# Altium footprint library RectangularConnectors.PcbLib: 154 footprints (part 9 of 10)
Each footprint in its own frame and in the unit in brackets; x right, y up, seen from the top. Pads: shape width x height; smd on the part's side, far side on the other; paste and mask are expansions set on the pad; w line width, h text height; cw(c..) or ccw(c..) is an arc to the next point about the centre after c.
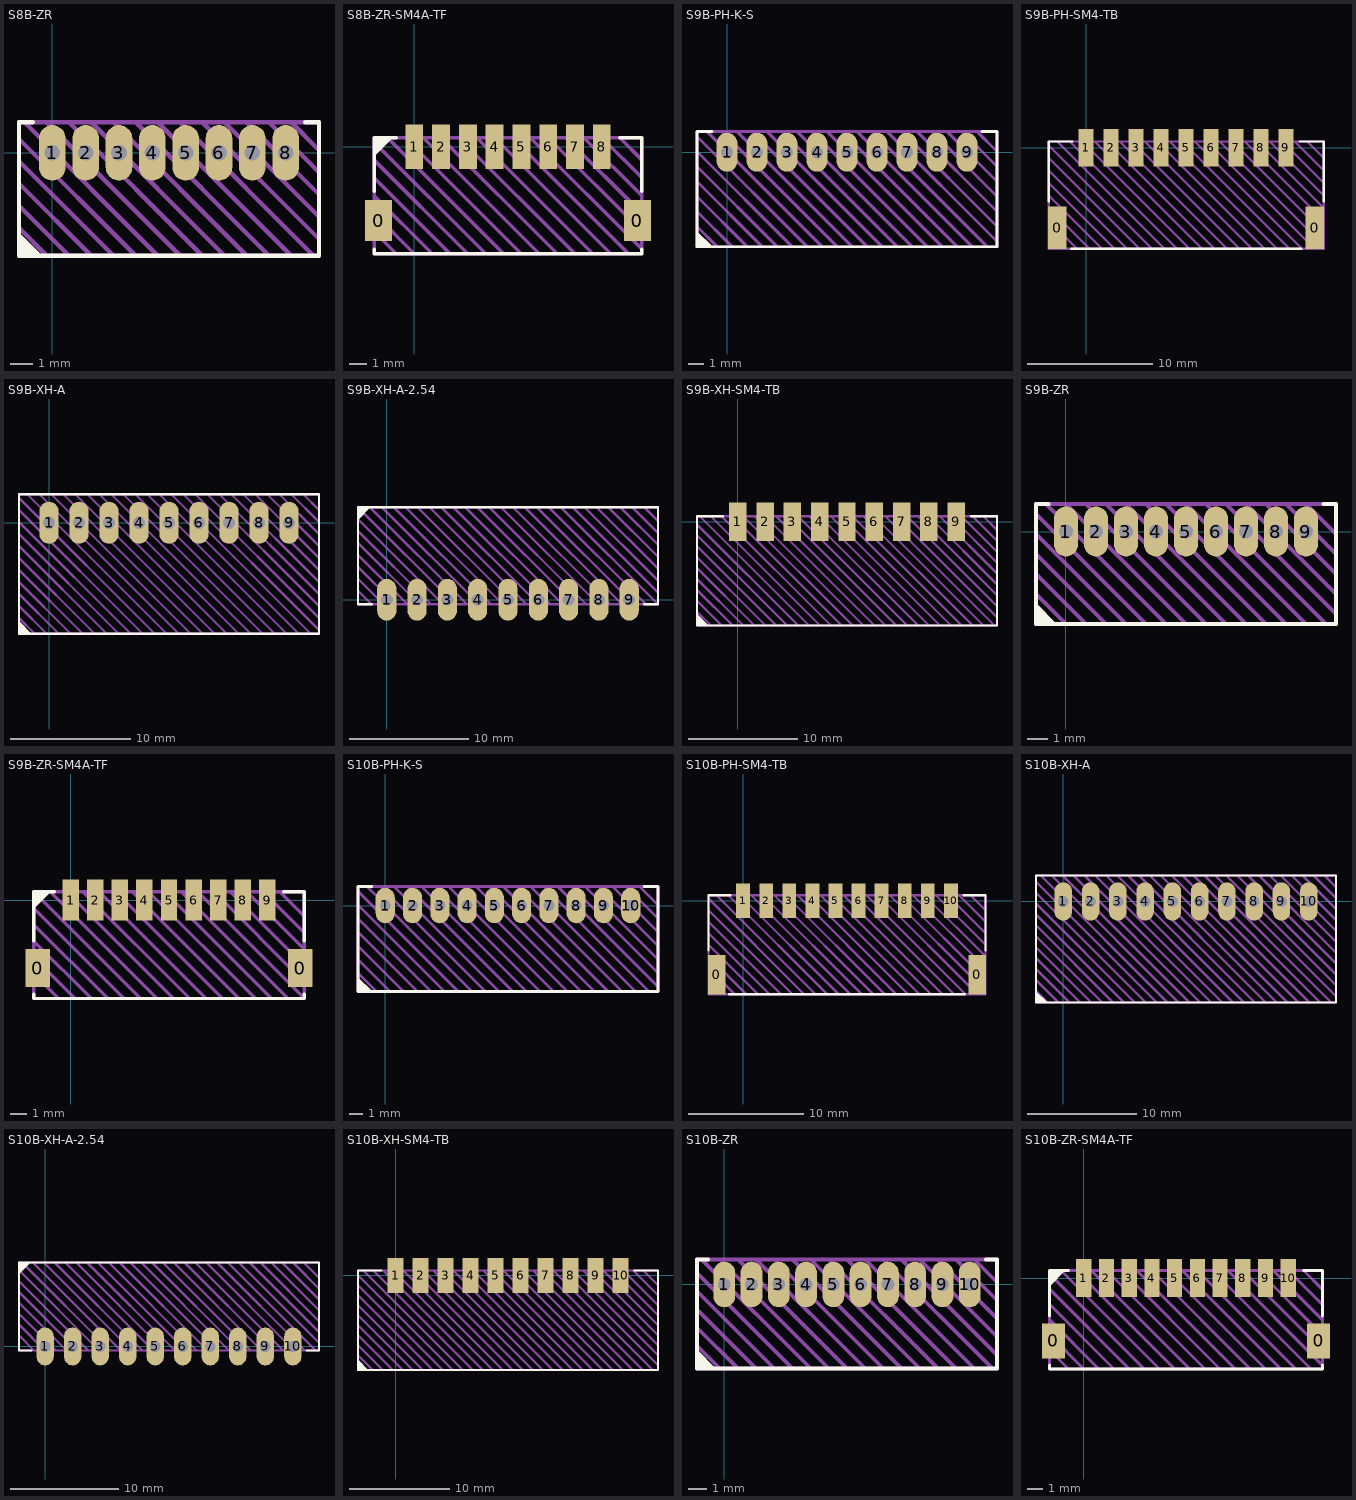
[diagram p8: the footprints below, top view; thin cyan lines are the x and y axes]

## S8B-ZR [mm] "ZH1.5 PTH Right Angle"
pads (8):
  oval 1.2x2.5 hole 0.7: 1(0,0) 2(1.5,0) 3(3,0) 4(4.5,0) 5(6,0) 6(7.5,0) 7(9,0) 8(10.5,0)
Top Overlay:
  region: -0.46,-4.625 -1.5,-3.585 -1.5,-4.625
  lines w0.2: -0.875,1.375 -1.5,1.375 -1.5,-4.625 12,-4.625 12,1.375 11.375,1.375
Top Draw:
  lines w0.2: -1.5,-3.375 -0.25,-4.625 ; -1.5,-2.375 0.75,-4.625 ; -1.5,-1.375 1.75,-4.625 ; -1.5,-0.375 2.75,-4.625 ; -1.5,0.625 3.75,-4.625 ; -1.25,1.375 4.75,-4.625 ; -0.25,1.375 5.75,-4.625 ; 0.75,1.375 6.75,-4.625 ; 1.75,1.375 7.75,-4.625 ; 2.75,1.375 8.75,-4.625 ; 3.75,1.375 9.75,-4.625 ; 4.75,1.375 10.75,-4.625 ; 5.75,1.375 11.75,-4.625 ; 6.75,1.375 12,-3.875 ; 7.75,1.375 12,-2.875 ; 8.75,1.375 12,-1.875 ; 9.75,1.375 12,-0.875 ; 10.75,1.375 12,0.125 ; -1.5,-4.625 12,-4.625 12,1.375 -1.5,1.375 -1.5,-4.625
Top Info:
  text "'.Comment'" at 2.064,-5.812 h0.75
3D body "S8B-ZR.step": height 3.72, standoff -2.68, extent -1.5,-4.6 12,1.4

## S8B-ZR-SM4A-TF [mm] "ZH1.5 SMT Right Angle"
pads (10):
  rect 1.5x2.3 smd: 0(-2,-4.15) 0(12.5,-4.15)
  rect 1x2.5 smd: 1(0,0) 2(1.5,0) 3(3,0) 4(4.5,0) 5(6,0) 6(7.5,0) 7(9,0) 8(10.5,0)
Top Overlay:
  region: -1.21,0.5 -2.25,-0.54 -2.25,0.5
  lines w0.2: -2.25,-5.75 -2.25,-6 12.75,-6 12.75,-5.75 ; -2.25,-2.5 -2.25,0.5 -1,0.5 ; 11.5,0.5 12.75,0.5 12.75,-2.5
Top Draw:
  lines w0.2: -2.25,-4.75 -1,-6 ; -2.25,-3.75 0,-6 ; -2.25,-2.75 1,-6 ; -2.25,-1.75 2,-6 ; -2.25,-0.75 3,-6 ; -2.25,0.25 4,-6 ; -1.5,0.5 5,-6 ; -0.5,0.5 6,-6 ; 0.5,0.5 7,-6 ; 1.5,0.5 8,-6 ; 2.5,0.5 9,-6 ; 3.5,0.5 10,-6 ; 4.5,0.5 11,-6 ; 5.5,0.5 12,-6 ; 6.5,0.5 12.75,-5.75 ; 7.5,0.5 12.75,-4.75 ; 8.5,0.5 12.75,-3.75 ; 9.5,0.5 12.75,-2.75 ; 10.5,0.5 12.75,-1.75 ; 11.5,0.5 12.75,-0.75 ; -2.25,-6 -2.25,0.5 12.75,0.5 12.75,-6 -2.25,-6
Top Info:
  text "'.Comment'" at 2.064,-7.187 h0.75
3D body "S8B-ZR-SM4A-TF.step": height 3.72, standoff 0.02, extent -2.25,-6 12.75,0.5

## S9B-PH-K-S [mm] "PH2.0 PTH Right Angle"
pads (9):
  oval 1.4x2.6 hole 0.8: 1(0,0) 2(2,0) 3(4,0) 4(6,0) 5(8,0) 6(10,0) 7(12,0) 8(14,0) 9(16,0)
Top Overlay:
  region: -0.96,-6.3 -2,-5.26 -2,-6.3
  lines w0.2: -1,1.4 -2,1.4 -2,-6.3 18,-6.3 18,1.4 17,1.4
Top Draw:
  lines w0.2: -2,-4.95 -0.65,-6.3 ; -2,-3.95 0.35,-6.3 ; -2,-2.95 1.35,-6.3 ; -2,-1.95 2.35,-6.3 ; -2,-0.95 3.35,-6.3 ; -2,0.05 4.35,-6.3 ; -2,1.05 5.35,-6.3 ; -1.35,1.4 6.35,-6.3 ; -0.35,1.4 7.35,-6.3 ; 0.65,1.4 8.35,-6.3 ; 1.65,1.4 9.35,-6.3 ; 2.65,1.4 10.35,-6.3 ; 3.65,1.4 11.35,-6.3 ; 4.65,1.4 12.35,-6.3 ; 5.65,1.4 13.35,-6.3 ; 6.65,1.4 14.35,-6.3 ; 7.65,1.4 15.35,-6.3 ; 8.65,1.4 16.35,-6.3 ; 9.65,1.4 17.35,-6.3 ; 10.65,1.4 18,-5.95 ; 11.65,1.4 18,-4.95 ; 12.65,1.4 18,-3.95 ; 13.65,1.4 18,-2.95 ; 14.65,1.4 18,-1.95 ; 15.65,1.4 18,-0.95 ; 16.65,1.4 18,0.05 ; -2,-6.3 -2,1.4 18,1.4 18,-6.3 -2,-6.3
Top Info:
  text "'.Comment'" at 3.751,-7.783 h1
3D body "S9B-PH-K-S.stp": height 4.62, standoff -3.38, extent -1.95,-6.25 17.95,1.35

## S9B-PH-SM4-TB [mm] "PH2.0 SMT Right Angle"
pads (11):
  rect 1.5x3.4 smd: 0(-2.3,-6.4) 0(18.3,-6.4)
  rect 1.2x3 smd: 1(0,0) 2(2,0) 3(4,0) 4(6,0) 5(8,0) 6(10,0) 7(12,0) 8(14,0) 9(16,0)
Top Overlay:
  lines w0.2: -3,-4.3 -3,0.5 -1.1,0.5 ; -1.2,-8.1 17.2,-8.1 ; 17.1,0.5 19,0.5 19,-4.3
Top Draw:
  lines w0.2: -3,-6.8 -1.7,-8.1 ; -3,-5.8 -0.7,-8.1 ; -3,-4.8 0.3,-8.1 ; -3,-3.8 1.3,-8.1 ; -3,-2.8 2.3,-8.1 ; -3,-1.8 3.3,-8.1 ; -3,-0.8 4.3,-8.1 ; -3,0.2 5.3,-8.1 ; -2.3,0.5 6.3,-8.1 ; -1.3,0.5 7.3,-8.1 ; -0.3,0.5 8.3,-8.1 ; 0.7,0.5 9.3,-8.1 ; 1.7,0.5 10.3,-8.1 ; 2.7,0.5 11.3,-8.1 ; 3.7,0.5 12.3,-8.1 ; 4.7,0.5 13.3,-8.1 ; 5.7,0.5 14.3,-8.1 ; 6.7,0.5 15.3,-8.1 ; 7.7,0.5 16.3,-8.1 ; 8.7,0.5 17.3,-8.1 ; 9.7,0.5 18.3,-8.1 ; 10.7,0.5 19,-7.8 ; 11.7,0.5 19,-6.8 ; 12.7,0.5 19,-5.8 ; 13.7,0.5 19,-4.8 ; 14.7,0.5 19,-3.8 ; 15.7,0.5 19,-2.8 ; 16.7,0.5 19,-1.8 ; 17.7,0.5 19,-0.8 ; -3,-8.1 -3,0.5 19,0.5 19,-8.1 -3,-8.1
Top Info:
  text "'.Comment'" at 3.751,-9.583 h1
3D body "S9B-PH-SM4-TB.step": height 5.52, standoff 0.02, extent -2.95,-8.1 18.95,0.5

## S9B-XH-A [mm] "XH2.5 PTH Right Angle"
pads (9):
  oval 1.6x3.5 hole 1: 1(0,0) 2(2.5,0) 3(5,0) 4(7.5,0) 5(10,0) 6(12.5,0) 7(15,0) 8(17.5,0) 9(20,0)
Top Overlay:
  region: -1.46,-9.25 -2.5,-8.21 -2.5,-9.25
  lines w0.2: -2.5,-9.25 22.5,-9.25 22.5,2.375 -2.5,2.375 -2.5,-9.25
Top Draw:
  lines w0.2: -2.5,-7.938 -1.188,-9.25 ; -2.5,-6.938 -0.188,-9.25 ; -2.5,-5.938 0.812,-9.25 ; -2.5,-4.938 1.812,-9.25 ; -2.5,-3.938 2.812,-9.25 ; -2.5,-2.938 3.812,-9.25 ; -2.5,-1.938 4.812,-9.25 ; -2.5,-0.938 5.812,-9.25 ; -2.5,0.062 6.812,-9.25 ; -2.5,1.062 7.812,-9.25 ; -2.5,2.062 8.812,-9.25 ; -1.813,2.375 9.812,-9.25 ; -0.813,2.375 10.812,-9.25 ; 0.187,2.375 11.812,-9.25 ; 1.188,2.375 12.812,-9.25 ; 2.187,2.375 13.812,-9.25 ; 3.188,2.375 14.812,-9.25 ; 4.187,2.375 15.813,-9.25 ; 5.188,2.375 16.812,-9.25 ; 6.188,2.375 17.813,-9.25 ; 7.188,2.375 18.812,-9.25 ; 8.188,2.375 19.813,-9.25 ; 9.188,2.375 20.813,-9.25 ; 10.188,2.375 21.813,-9.25 ; 11.188,2.375 22.5,-8.937 ; 12.188,2.375 22.5,-7.937 ; 13.188,2.375 22.5,-6.937 ; 14.188,2.375 22.5,-5.937 ; 15.188,2.375 22.5,-4.937 ; 16.188,2.375 22.5,-3.937 ; 17.188,2.375 22.5,-2.937 ; 18.188,2.375 22.5,-1.937 ; 19.188,2.375 22.5,-0.937 ; 20.188,2.375 22.5,0.063 ; 21.188,2.375 22.5,1.063 ; -2.5,-9.25 22.5,-9.25 22.5,2.375 -2.5,2.375 -2.5,-9.25
Top Info:
  text "'.Comment'" at 5.751,-10.708 h1
3D body "S9B-XH-A.step": height 5.77, standoff -3.48, extent -2.45,-9.2 22.45,2.3

## S9B-XH-A-2.54 [mm] "XH2.54 PTH Right Angle"
pads (9):
  oval 1.6x3.5 hole 1: 1(0,0) 2(2.54,0) 3(5.08,0) 4(7.62,0) 5(10.16,0) 6(12.7,0) 7(15.24,0) 8(17.78,0) 9(20.32,0)
Top Overlay:
  region: -2.413,6.707 -1.373,7.747 -2.413,7.747
  lines w0.2: -1.27,-0.381 -2.413,-0.381 -2.413,7.747 22.733,7.747 22.733,-0.381 21.59,-0.381
Top Draw:
  lines w0.2: -2.413,0.756 -1.276,-0.381 ; -2.413,1.756 -0.276,-0.381 ; -2.413,2.756 0.724,-0.381 ; -2.413,3.756 1.724,-0.381 ; -2.413,4.756 2.724,-0.381 ; -2.413,5.756 3.724,-0.381 ; -2.413,6.756 4.724,-0.381 ; -2.404,7.747 5.724,-0.381 ; -1.404,7.747 6.724,-0.381 ; -0.404,7.747 7.724,-0.381 ; 0.596,7.747 8.724,-0.381 ; 1.596,7.747 9.724,-0.381 ; 2.596,7.747 10.724,-0.381 ; 3.596,7.747 11.724,-0.381 ; 4.596,7.747 12.724,-0.381 ; 5.596,7.747 13.724,-0.381 ; 6.596,7.747 14.724,-0.381 ; 7.596,7.747 15.724,-0.381 ; 8.596,7.747 16.724,-0.381 ; 9.596,7.747 17.724,-0.381 ; 10.596,7.747 18.724,-0.381 ; 11.596,7.747 19.724,-0.381 ; 12.596,7.747 20.724,-0.381 ; 13.596,7.747 21.724,-0.381 ; 14.596,7.747 22.724,-0.381 ; 15.596,7.747 22.733,0.61 ; 16.596,7.747 22.733,1.61 ; 17.596,7.747 22.733,2.61 ; 18.596,7.747 22.733,3.61 ; 19.596,7.747 22.733,4.61 ; 20.596,7.747 22.733,5.61 ; 21.596,7.747 22.733,6.61 ; -2.413,-0.381 -2.413,7.747 22.733,7.747 22.733,-0.381 -2.413,-0.381
Top Info:
  text "'.Comment'" at 5.911,-3.25 h1
3D body "JST - XH - Thru (R) - 9Pin - 2.54mm.stp": height 5.84, standoff -3.38, extent -2.337,-0.325 22.657,7.712

## S9B-XH-SM4-TB [mm] "XH2.5 SMT Right Angle"
pads (9):
  rect 1.6x3.5 smd: 1(0,0) 2(2.5,0) 3(5,0) 4(7.5,0) 5(10,0) 6(12.5,0) 7(15,0) 8(17.5,0) 9(20,0)
Top Overlay:
  region: -3.75,-8.46 -2.71,-9.5 -3.75,-9.5
  lines w0.2: -1.375,0.5 -3.75,0.5 -3.75,-9.5 23.75,-9.5 23.75,0.5 21.375,0.5
Top Draw:
  lines w0.2: -3.75,-8.25 -2.5,-9.5 ; -3.75,-7.25 -1.5,-9.5 ; -3.75,-6.25 -0.5,-9.5 ; -3.75,-5.25 0.5,-9.5 ; -3.75,-4.25 1.5,-9.5 ; -3.75,-3.25 2.5,-9.5 ; -3.75,-2.25 3.5,-9.5 ; -3.75,-1.25 4.5,-9.5 ; -3.75,-0.25 5.5,-9.5 ; -3.5,0.5 6.5,-9.5 ; -2.5,0.5 7.5,-9.5 ; -1.5,0.5 8.5,-9.5 ; -0.5,0.5 9.5,-9.5 ; 0.5,0.5 10.5,-9.5 ; 1.5,0.5 11.5,-9.5 ; 2.5,0.5 12.5,-9.5 ; 3.5,0.5 13.5,-9.5 ; 4.5,0.5 14.5,-9.5 ; 5.5,0.5 15.5,-9.5 ; 6.5,0.5 16.5,-9.5 ; 7.5,0.5 17.5,-9.5 ; 8.5,0.5 18.5,-9.5 ; 9.5,0.5 19.5,-9.5 ; 10.5,0.5 20.5,-9.5 ; 11.5,0.5 21.5,-9.5 ; 12.5,0.5 22.5,-9.5 ; 13.5,0.5 23.5,-9.5 ; 14.5,0.5 23.75,-8.75 ; 15.5,0.5 23.75,-7.75 ; 16.5,0.5 23.75,-6.75 ; 17.5,0.5 23.75,-5.75 ; 18.5,0.5 23.75,-4.75 ; 19.5,0.5 23.75,-3.75 ; 20.5,0.5 23.75,-2.75 ; 21.5,0.5 23.75,-1.75 ; 22.5,0.5 23.75,-0.75 ; -3.75,-9.5 23.75,-9.5 23.75,0.5 -3.75,0.5 -3.75,-9.5
Top Info:
  text "'.Comment'" at 5.751,-10.958 h1
3D body "S9B-XH-SM4-TB.step": height 6, standoff 0, extent -3.75,-9.5 23.75,0.5

## S9B-ZR [mm] "ZH1.5 PTH Right Angle"
pads (9):
  oval 1.2x2.5 hole 0.7: 1(0,0) 2(1.5,0) 3(3,0) 4(4.5,0) 5(6,0) 6(7.5,0) 7(9,0) 8(10.5,0) 9(12,0)
Top Overlay:
  region: -0.46,-4.625 -1.5,-3.585 -1.5,-4.625
  lines w0.2: -0.875,1.375 -1.5,1.375 -1.5,-4.625 13.5,-4.625 13.5,1.375 12.875,1.375
Top Draw:
  lines w0.2: -1.5,-3.125 0,-4.625 ; -1.5,-2.125 1,-4.625 ; -1.5,-1.125 2,-4.625 ; -1.5,-0.125 3,-4.625 ; -1.5,0.875 4,-4.625 ; -1,1.375 5,-4.625 ; 0,1.375 6,-4.625 ; 1,1.375 7,-4.625 ; 2,1.375 8,-4.625 ; 3,1.375 9,-4.625 ; 4,1.375 10,-4.625 ; 5,1.375 11,-4.625 ; 6,1.375 12,-4.625 ; 7,1.375 13,-4.625 ; 8,1.375 13.5,-4.125 ; 9,1.375 13.5,-3.125 ; 10,1.375 13.5,-2.125 ; 11,1.375 13.5,-1.125 ; 12,1.375 13.5,-0.125 ; -1.5,-4.625 -1.5,1.375 13.5,1.375 13.5,-4.625 -1.5,-4.625
Top Info:
  text "'.Comment'" at 2.814,-5.812 h0.75
3D body "S9B-ZR.step": height 3.72, standoff -2.68, extent -1.5,-4.6 13.5,1.4

## S9B-ZR-SM4A-TF [mm] "ZH1.5 SMT Right Angle"
pads (11):
  rect 1.5x2.3 smd: 0(-2,-4.15) 0(14,-4.15)
  rect 1x2.5 smd: 1(0,0) 2(1.5,0) 3(3,0) 4(4.5,0) 5(6,0) 6(7.5,0) 7(9,0) 8(10.5,0) 9(12,0)
Top Overlay:
  region: -1.21,0.5 -2.25,-0.54 -2.25,0.5
  lines w0.2: -2.25,-5.75 -2.25,-6 14.25,-6 14.25,-5.75 ; -2.25,-2.5 -2.25,0.5 -1,0.5 ; 13,0.5 14.25,0.5 14.25,-2.5
Top Draw:
  lines w0.2: -2.25,-4.5 -0.75,-6 ; -2.25,-3.5 0.25,-6 ; -2.25,-2.5 1.25,-6 ; -2.25,-1.5 2.25,-6 ; -2.25,-0.5 3.25,-6 ; -1.25,0.5 5.25,-6 ; -0.25,0.5 6.25,-6 ; 0.75,0.5 7.25,-6 ; 1.75,0.5 8.25,-6 ; 2.75,0.5 9.25,-6 ; 3.75,0.5 10.25,-6 ; 4.25,-6 -2.25,0.5 ; 4.75,0.5 11.25,-6 ; 5.75,0.5 12.25,-6 ; 6.75,0.5 13.25,-6 ; 7.75,0.5 14.25,-6 ; 8.75,0.5 14.25,-5 ; 9.75,0.5 14.25,-4 ; 10.75,0.5 14.25,-3 ; 11.75,0.5 14.25,-2 ; 12.75,0.5 14.25,-1 ; -2.25,0.5 -2.25,-6 14.25,-6 ; -2.25,0.5 14.25,0.5 14.25,-6
Top Info:
  text "'.Comment'" at 2.814,-7.187 h0.75
3D body "S9B-ZR-SM4A-TF.step": height 3.72, standoff 0.02, extent -2.25,-6 14.25,0.5

## S10B-PH-K-S [mm] "PH2.0 PTH Right Angle"
pads (10):
  oval 1.4x2.6 hole 0.8: 1(0,0) 2(2,0) 3(4,0) 4(6,0) 5(8,0) 6(10,0) 7(12,0) 8(14,0) 9(16,0) 10(18,0)
Top Overlay:
  region: -0.96,-6.3 -2,-5.26 -2,-6.3
  lines w0.2: -1,1.4 -2,1.4 -2,-6.3 20,-6.3 20,1.4 19,1.4
Top Draw:
  lines w0.2: -2,-4.95 -0.65,-6.3 ; -2,-3.95 0.35,-6.3 ; -2,-2.95 1.35,-6.3 ; -2,-1.95 2.35,-6.3 ; -2,-0.95 3.35,-6.3 ; -2,0.05 4.35,-6.3 ; -2,1.05 5.35,-6.3 ; -1.35,1.4 6.35,-6.3 ; -0.35,1.4 7.35,-6.3 ; 0.65,1.4 8.35,-6.3 ; 1.65,1.4 9.35,-6.3 ; 2.65,1.4 10.35,-6.3 ; 3.65,1.4 11.35,-6.3 ; 4.65,1.4 12.35,-6.3 ; 5.65,1.4 13.35,-6.3 ; 6.65,1.4 14.35,-6.3 ; 7.65,1.4 15.35,-6.3 ; 8.65,1.4 16.35,-6.3 ; 9.65,1.4 17.35,-6.3 ; 10.65,1.4 18.35,-6.3 ; 11.65,1.4 19.35,-6.3 ; 12.65,1.4 20,-5.95 ; 13.65,1.4 20,-4.95 ; 14.65,1.4 20,-3.95 ; 15.65,1.4 20,-2.95 ; 16.65,1.4 20,-1.95 ; 17.65,1.4 20,-0.95 ; 18.65,1.4 20,0.05 ; -2,-6.3 20,-6.3 20,1.4 -2,1.4 -2,-6.3
Top Info:
  text "'.Comment'" at 4.751,-7.783 h1
3D body "S10B-PH-K-S.stp": height 4.62, standoff -3.38, extent -1.95,-6.25 19.95,1.35

## S10B-PH-SM4-TB [mm] "PH2.0 SMT Right Angle"
pads (12):
  rect 1.5x3.4 smd: 0(-2.3,-6.4) 0(20.3,-6.4)
  rect 1.2x3 smd: 1(0,0) 2(2,0) 3(4,0) 4(6,0) 5(8,0) 6(10,0) 7(12,0) 8(14,0) 9(16,0) 10(18,0)
Top Overlay:
  lines w0.2: -3,-4.3 -3,0.5 -1.1,0.5 ; -1.2,-8.1 19.2,-8.1 ; 19.1,0.5 21,0.5 21,-4.3
Top Draw:
  lines w0.2: -3,-6.8 -1.7,-8.1 ; -3,-5.8 -0.7,-8.1 ; -3,-4.8 0.3,-8.1 ; -3,-3.8 1.3,-8.1 ; -3,-2.8 2.3,-8.1 ; -3,-1.8 3.3,-8.1 ; -3,-0.8 4.3,-8.1 ; -3,0.2 5.3,-8.1 ; -2.3,0.5 6.3,-8.1 ; -1.3,0.5 7.3,-8.1 ; -0.3,0.5 8.3,-8.1 ; 0.7,0.5 9.3,-8.1 ; 1.7,0.5 10.3,-8.1 ; 2.7,0.5 11.3,-8.1 ; 3.7,0.5 12.3,-8.1 ; 4.7,0.5 13.3,-8.1 ; 5.7,0.5 14.3,-8.1 ; 6.7,0.5 15.3,-8.1 ; 7.7,0.5 16.3,-8.1 ; 8.7,0.5 17.3,-8.1 ; 9.7,0.5 18.3,-8.1 ; 10.7,0.5 19.3,-8.1 ; 11.7,0.5 20.3,-8.1 ; 12.7,0.5 21,-7.8 ; 13.7,0.5 21,-6.8 ; 14.7,0.5 21,-5.8 ; 15.7,0.5 21,-4.8 ; 16.7,0.5 21,-3.8 ; 17.7,0.5 21,-2.8 ; 18.7,0.5 21,-1.8 ; 19.7,0.5 21,-0.8 ; -3,-8.1 -3,0.5 21,0.5 21,-8.1 -3,-8.1
Top Info:
  text "'.Comment'" at 4.751,-9.583 h1
3D body "S10B-PH-SM4-TB.step": height 5.52, standoff 0.02, extent -2.95,-8.1 20.95,0.5

## S10B-XH-A [mm] "XH2.5 PTH Right Angle"
pads (10):
  oval 1.6x3.5 hole 1: 1(0,0) 2(2.5,0) 3(5,0) 4(7.5,0) 5(10,0) 6(12.5,0) 7(15,0) 8(17.5,0) 9(20,0) 10(22.5,0)
Top Overlay:
  region: -1.46,-9.25 -2.5,-8.21 -2.5,-9.25
  lines w0.2: -2.5,-9.25 -2.5,2.375 25,2.375 25,-9.25 -2.5,-9.25
Top Draw:
  lines w0.2: -2.5,-8.188 -1.438,-9.25 ; -2.5,-7.188 -0.438,-9.25 ; -2.5,-6.188 0.562,-9.25 ; -2.5,-5.188 1.562,-9.25 ; -2.5,-4.188 2.562,-9.25 ; -2.5,-3.188 3.562,-9.25 ; -2.5,-2.188 4.562,-9.25 ; -2.5,-1.188 5.562,-9.25 ; -2.5,-0.188 6.562,-9.25 ; -2.5,0.812 7.562,-9.25 ; -2.5,1.812 8.562,-9.25 ; -2.063,2.375 9.562,-9.25 ; -1.063,2.375 10.562,-9.25 ; -0.063,2.375 11.562,-9.25 ; 0.937,2.375 12.562,-9.25 ; 1.937,2.375 13.562,-9.25 ; 2.937,2.375 14.562,-9.25 ; 3.938,2.375 15.562,-9.25 ; 4.938,2.375 16.562,-9.25 ; 5.938,2.375 17.562,-9.25 ; 6.938,2.375 18.563,-9.25 ; 7.938,2.375 19.563,-9.25 ; 8.938,2.375 20.563,-9.25 ; 9.938,2.375 21.563,-9.25 ; 10.938,2.375 22.563,-9.25 ; 11.938,2.375 23.563,-9.25 ; 12.938,2.375 24.563,-9.25 ; 13.938,2.375 25,-8.687 ; 14.938,2.375 25,-7.687 ; 15.938,2.375 25,-6.687 ; 16.938,2.375 25,-5.687 ; 17.938,2.375 25,-4.687 ; 18.938,2.375 25,-3.687 ; 19.938,2.375 25,-2.687 ; 20.938,2.375 25,-1.687 ; 21.938,2.375 25,-0.687 ; 22.938,2.375 25,0.313 ; 23.938,2.375 25,1.313 ; -2.5,-9.25 -2.5,2.375 25,2.375 25,-9.25 -2.5,-9.25
Top Info:
  text "'.Comment'" at 7.001,-10.708 h1
3D body "S10B-XH-A.step": height 5.77, standoff -3.48, extent -2.45,-9.2 24.95,2.3

## S10B-XH-A-2.54 [mm] "XH2.54 PTH Right Angle"
pads (10):
  oval 1.6x3.5 hole 1: 1(0,0) 2(2.54,0) 3(5.08,0) 4(7.62,0) 5(10.16,0) 6(12.7,0) 7(15.24,0) 8(17.78,0) 9(20.32,0) 10(22.86,0)
Top Overlay:
  region: -2.413,6.707 -1.373,7.747 -2.413,7.747
  lines w0.2: -1.27,-0.381 -2.413,-0.381 -2.413,7.747 25.273,7.747 25.273,-0.381 24.13,-0.381
Top Draw:
  lines w0.2: -2.413,1.026 -1.006,-0.381 ; -2.413,2.026 -0.006,-0.381 ; -2.413,3.026 0.994,-0.381 ; -2.413,4.026 1.994,-0.381 ; -2.413,5.026 2.994,-0.381 ; -2.413,6.026 3.994,-0.381 ; -2.413,7.026 4.994,-0.381 ; -2.134,7.747 5.994,-0.381 ; -1.134,7.747 6.994,-0.381 ; -0.134,7.747 7.994,-0.381 ; 0.866,7.747 8.994,-0.381 ; 1.866,7.747 9.994,-0.381 ; 2.866,7.747 10.994,-0.381 ; 3.866,7.747 11.994,-0.381 ; 4.866,7.747 12.994,-0.381 ; 5.866,7.747 13.994,-0.381 ; 6.866,7.747 14.994,-0.381 ; 7.866,7.747 15.994,-0.381 ; 8.866,7.747 16.994,-0.381 ; 9.866,7.747 17.994,-0.381 ; 10.866,7.747 18.994,-0.381 ; 11.866,7.747 19.994,-0.381 ; 12.866,7.747 20.994,-0.381 ; 13.866,7.747 21.994,-0.381 ; 14.866,7.747 22.994,-0.381 ; 15.866,7.747 23.994,-0.381 ; 16.866,7.747 24.994,-0.381 ; 17.866,7.747 25.273,0.34 ; 18.866,7.747 25.273,1.34 ; 19.866,7.747 25.273,2.34 ; 20.866,7.747 25.273,3.34 ; 21.866,7.747 25.273,4.34 ; 22.866,7.747 25.273,5.34 ; 23.866,7.747 25.273,6.34 ; -2.413,-0.381 -2.413,7.747 25.273,7.747 25.273,-0.381 -2.413,-0.381
Top Info:
  text "'.Comment'" at 7.181,-3.25 h1
3D body "JST - XH - Thru (R) - 10Pin - 2.54mm.stp": height 5.84, standoff -3.38, extent -2.337,-0.325 25.197,7.712

## S10B-XH-SM4-TB [mm] "XH2.5 SMT Right Angle"
pads (10):
  rect 1.6x3.5 smd: 1(0,0) 2(2.5,0) 3(5,0) 4(7.5,0) 5(10,0) 6(12.5,0) 7(15,0) 8(17.5,0) 9(20,0) 10(22.5,0)
Top Overlay:
  region: -3.75,-8.46 -2.71,-9.5 -3.75,-9.5
  lines w0.2: -1.375,0.5 -3.75,0.5 -3.75,-9.5 26.25,-9.5 26.25,0.5 23.875,0.5
Top Draw:
  lines w0.2: -3.75,-8 -2.25,-9.5 ; -3.75,-7 -1.25,-9.5 ; -3.75,-6 -0.25,-9.5 ; -3.75,-5 0.75,-9.5 ; -3.75,-4 1.75,-9.5 ; -3.75,-3 2.75,-9.5 ; -3.75,-2 3.75,-9.5 ; -3.75,-1 4.75,-9.5 ; -3.75,0 5.75,-9.5 ; -3.25,0.5 6.75,-9.5 ; -2.25,0.5 7.75,-9.5 ; -1.25,0.5 8.75,-9.5 ; -0.25,0.5 9.75,-9.5 ; 0.75,0.5 10.75,-9.5 ; 1.75,0.5 11.75,-9.5 ; 2.75,0.5 12.75,-9.5 ; 3.75,0.5 13.75,-9.5 ; 4.75,0.5 14.75,-9.5 ; 5.75,0.5 15.75,-9.5 ; 6.75,0.5 16.75,-9.5 ; 7.75,0.5 17.75,-9.5 ; 8.75,0.5 18.75,-9.5 ; 9.75,0.5 19.75,-9.5 ; 10.75,0.5 20.75,-9.5 ; 11.75,0.5 21.75,-9.5 ; 12.75,0.5 22.75,-9.5 ; 13.75,0.5 23.75,-9.5 ; 14.75,0.5 24.75,-9.5 ; 15.75,0.5 25.75,-9.5 ; 16.75,0.5 26.25,-9 ; 17.75,0.5 26.25,-8 ; 18.75,0.5 26.25,-7 ; 19.75,0.5 26.25,-6 ; 20.75,0.5 26.25,-5 ; 21.75,0.5 26.25,-4 ; 22.75,0.5 26.25,-3 ; 23.75,0.5 26.25,-2 ; 24.75,0.5 26.25,-1 ; -3.75,-9.5 -3.75,0.5 26.25,0.5 26.25,-9.5 -3.75,-9.5
Top Info:
  text "'.Comment'" at 7.001,-10.958 h1
3D body "S10B-XH-SM4-TB.step": height 6, standoff 0, extent -3.75,-9.5 26.25,0.5

## S10B-ZR [mm] "ZH1.5 PTH Right Angle"
pads (10):
  oval 1.2x2.5 hole 0.7: 1(0,0) 2(1.5,0) 3(3,0) 4(4.5,0) 5(6,0) 6(7.5,0) 7(9,0) 8(10.5,0) 9(12,0) 10(13.5,0)
Top Overlay:
  region: -0.46,-4.625 -1.5,-3.585 -1.5,-4.625
  lines w0.2: -0.875,1.375 -1.5,1.375 -1.5,-4.625 15,-4.625 15,1.375 14.375,1.375
Top Draw:
  lines w0.2: -1.5,-3.375 -0.25,-4.625 ; -1.5,-2.375 0.75,-4.625 ; -1.5,-1.375 1.75,-4.625 ; -1.5,-0.375 2.75,-4.625 ; -1.5,0.625 3.75,-4.625 ; -1.25,1.375 4.75,-4.625 ; -0.25,1.375 5.75,-4.625 ; 0.75,1.375 6.75,-4.625 ; 1.75,1.375 7.75,-4.625 ; 2.75,1.375 8.75,-4.625 ; 3.75,1.375 9.75,-4.625 ; 4.75,1.375 10.75,-4.625 ; 5.75,1.375 11.75,-4.625 ; 6.75,1.375 12.75,-4.625 ; 7.75,1.375 13.75,-4.625 ; 8.75,1.375 14.75,-4.625 ; 9.75,1.375 15,-3.875 ; 10.75,1.375 15,-2.875 ; 11.75,1.375 15,-1.875 ; 12.75,1.375 15,-0.875 ; 13.75,1.375 15,0.125 ; -1.5,-4.625 -1.5,1.375 15,1.375 15,-4.625 -1.5,-4.625
Top Info:
  text "'.Comment'" at 3.564,-5.812 h0.75
3D body "S10B-ZR.step": height 3.72, standoff -2.68, extent -1.5,-4.6 15,1.4

## S10B-ZR-SM4A-TF [mm] "ZH1.5 SMT Right Angle"
pads (12):
  rect 1.5x2.3 smd: 0(-2,-4.15) 0(15.5,-4.15)
  rect 1x2.5 smd: 1(0,0) 2(1.5,0) 3(3,0) 4(4.5,0) 5(6,0) 6(7.5,0) 7(9,0) 8(10.5,0) 9(12,0) 10(13.5,0)
Top Overlay:
  region: -1.21,0.5 -2.25,-0.54 -2.25,0.5
  lines w0.2: -2.25,-5.75 -2.25,-6 15.75,-6 15.75,-5.75 ; -2.25,-2.5 -2.25,0.5 -1,0.5 ; 14.5,0.5 15.75,0.5 15.75,-2.5
Top Draw:
  lines w0.2: -2.25,-4.75 -1,-6 ; -2.25,-3.75 0,-6 ; -2.25,-2.75 1,-6 ; -2.25,-1.75 2,-6 ; -2.25,-0.75 3,-6 ; -2.25,0.25 4,-6 ; -1.5,0.5 5,-6 ; -0.5,0.5 6,-6 ; 0.5,0.5 7,-6 ; 1.5,0.5 8,-6 ; 2.5,0.5 9,-6 ; 3.5,0.5 10,-6 ; 4.5,0.5 11,-6 ; 5.5,0.5 12,-6 ; 6.5,0.5 13,-6 ; 7.5,0.5 14,-6 ; 8.5,0.5 15,-6 ; 9.5,0.5 15.75,-5.75 ; 10.5,0.5 15.75,-4.75 ; 11.5,0.5 15.75,-3.75 ; 12.5,0.5 15.75,-2.75 ; 13.5,0.5 15.75,-1.75 ; 14.5,0.5 15.75,-0.75 ; -2.25,-6 15.75,-6 15.75,0.5 -2.25,0.5 -2.25,-6
Top Info:
  text "'.Comment'" at 3.564,-7.187 h0.75
3D body "S10B-ZR-SM4A-TF.step": height 3.72, standoff 0.02, extent -2.25,-6 15.75,0.5